# EAGLE library part JACK_NCJ6FI-H (library wheat)
Jack, XLR3 + 1/4" TRS Neutrik NCJ6FI-H
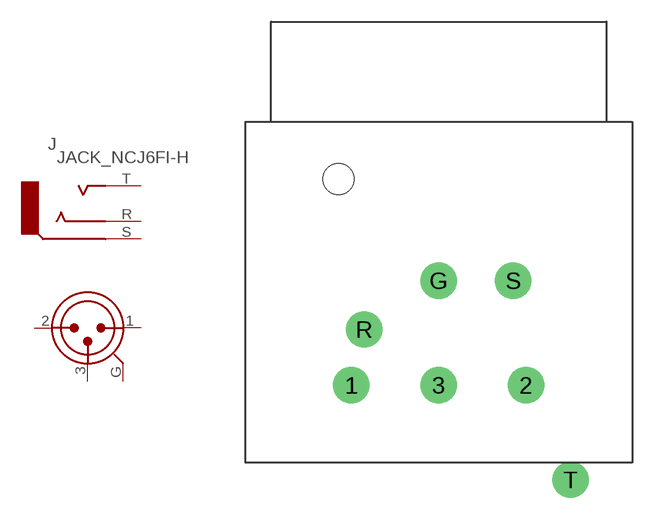
[diagram p128: symbol with the pads of NCJ6FI-H; footprint NCJ6FI-H]

Designator prefix J

## JACK_NCJ6FI-H  [NCJ6FI-H]
1  1  pas
2  2  pas
3  3  pas
G  G  pas
R  R  pas
S  S  pas
T  T  pas

## Footprint NCJ6FI-H (pad centres in mm)
Jack, XLR3 + 1/4" TRS Neutrik NCJ6FI-H
drill 1.27 pad 2.54: 1 -6.1,-18.4; 2 6.1,-18.4; 3 0,-18.4; G 0,-11.1; R -5.2,-14.5; S 5.2,-11.1; T 9.2,-25
hole 2.184 at -7,-4